# EAGLE library part TDA2615/16 (library Audio-Power-amlifier V.2.0)
2 ´ 6 W hi-fi audio power amplifier Philips Semiconductors
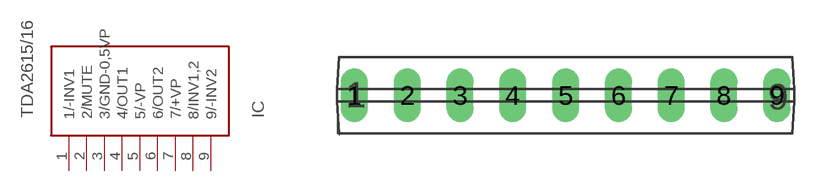
[diagram p107: symbol with the pads of SOT110-1; footprint SOT110-1]

Designator prefix IC

## TDA2615/16  [SOT110-1]
1  1/-INV1  in
2  2/MUTE  in
3  3/GND-0,5VP  pwr
4  4/OUT1  out
5  5/-VP  pwr
6  6/OUT2  out
7  7/+VP  pwr
8  8/INV1,2  in
9  9/-INV2  in

## Footprint SOT110-1 (pad centres in mm)
SIL9MPF: plastic single in-line medium power package with fin; 9 leads
drill 0.8 long: 1 -10.16,0; 2 -7.62,0; 3 -5.08,0; 4 -2.54,0; 5 0,0; 6 2.54,0; 7 5.08,0; 8 7.62,0; 9 10.16,0